# Altium schematic symbol library PCB-ANTENNA.SchLib: 1 symbol
Pins are listed as number, name and electrical type; pins without a type are passive.

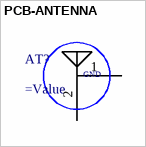
[diagram p0: symbol PCB-ANTENNA]

## PCB-ANTENNA
designator AT?
=Description
pins: 1, 2
text: GND